# Altium integrated library Maxim Sensors.IntLib: 1171 symbols (part 37 of 61)
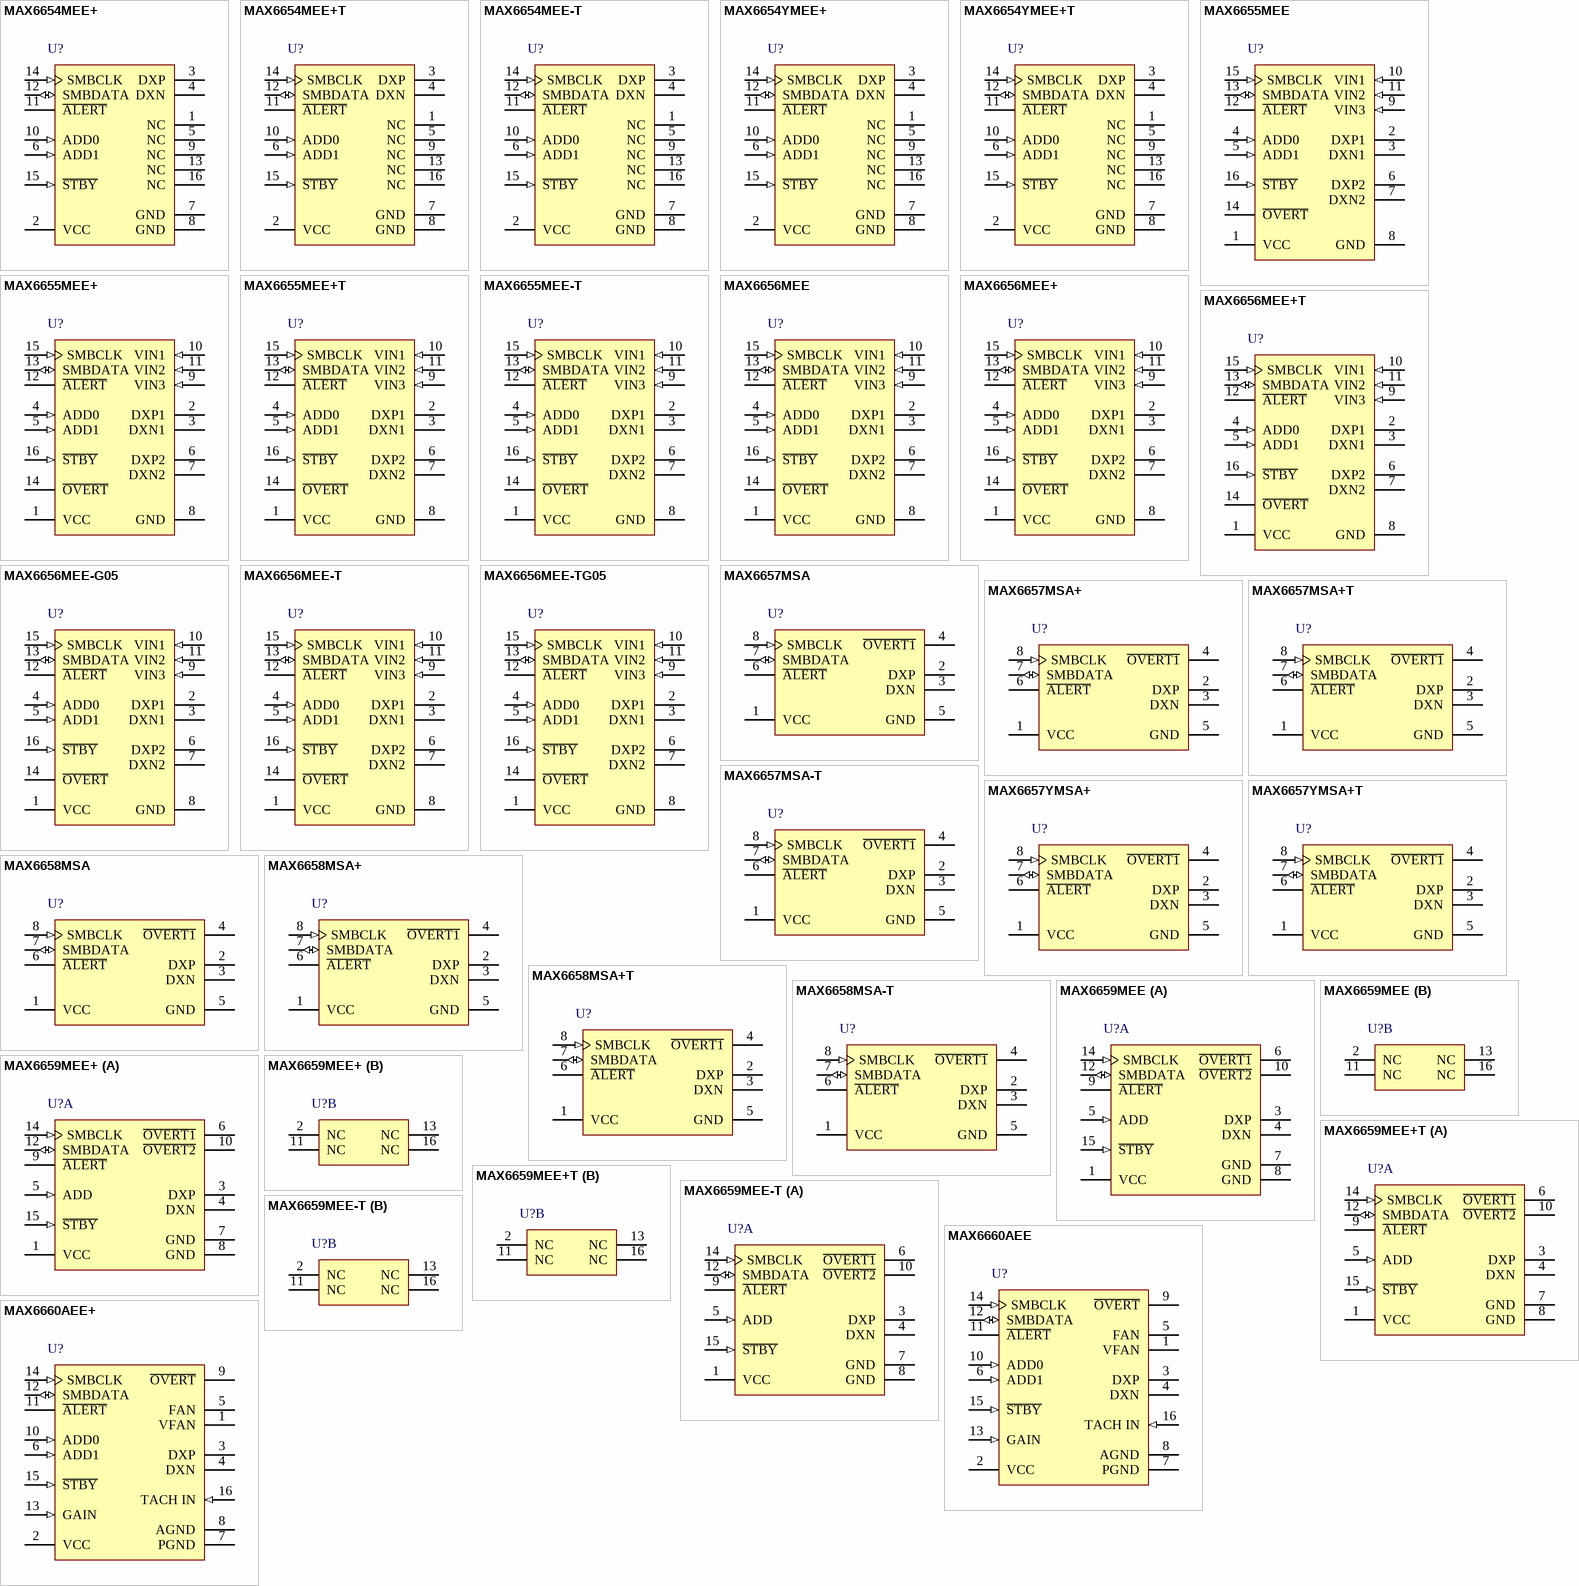
[diagram p69: symbols MAX6654MEE+ to MAX6660AEE+]

## MAX6660AEE
designator U?
Fan-Speed Regulator and Monitor with I2C / SMBus Interface, -40 to 125 degC, 16-Pin SOP (E16-5); Generic Part Number: MAX6660; PartNumber: MAX6660AEE; Fan Cntrl.: Linear; Interface: 2-Wire/I2C/SMBus; DatasheetVersion: Rev. 1; PackageVersion: Rev. K, 04/2012; PackageReference: E16-5; PackageDescription: 16-Pin Quarter Small-Outline Package, Body 3.9 x 4.89 mm, Pitch 0.635 mm; Supplier 1: Mouser; Supplier Part Number 1: N/A; Mounting Technology: Surface Mount; Code_JEDEC: MO-137; ComponentLink1Description: Manufacturer URL; ComponentLink1URL: http://www.maximintegrated.com/; ComponentLink2Description: Datasheet; ComponentLink2URL: http://datasheets.maximintegrated.com/en/ds/MAX6660.pdf; ComponentLink3Description: Package Specification; ComponentLink3URL: http://pdfserv.maximintegrated.com/package_dwgs/21-0055.PDF
footprint MAXM-E16-5_N (SOP, 16-Leads, Body 4.89x3.9mm, Pitch 0.635mm, IPC Medium Density)
footprint MAXM-E16-5_L (SOP, 16-Leads, Body 4.89x3.9mm, Pitch 0.635mm, IPC High Density)
footprint MAXM-E16-5_M (SOP, 16-Leads, Body 4.89x3.9mm, Pitch 0.635mm, IPC Low Density)
pins: 1 VFAN (power) "Fan Drive Power-Supply Input. 4.5V to 13.5V.", 2 VCC (power) "Supply Voltage Input. +3V to +5.5V. Bypass VCC to ground with a 0.1uF capacitor.", 3 DXP "Input: Remote-Junction Anode. Place a 2200pF capacitor between DXP and DXN for noise filtering.", 4 DXN "Input: Remote-Junction Cathode. DXN is internally biased to a diode voltage above ground.", 5 FAN (oc) "Open-Drain Output to Fan Low Side. Connect a minimum 1uF capacitor between FAN and VFAN.", 6 ADD1 (in) "SMBus Address Select Pin. ADD0 and ADD1 are sampled upon power-up.", 7 PGND (power) "Power Ground", 8 AGND (power) "Analog Ground", 9 ~{OVERT} (oc) "Overtemperature Shutdown Output. Active-low output (programmable for active high if desired). Open drain.", 10 ADD0 (in) "SMBus Slave Address Select Pin. ADD0 and ADD1 are sampled upon power-up.", 11 ~{ALERT} (oc) "SMBus Alert (Interrupt) Output. Open-drain, active-low output.", 12 SMBDATA (io) "SMBus Serial Data Input/Output. Open drain.", 13 GAIN (in) "Gain Control. Connect an external resistor from GAIN to VCC to reduce the gain of the current-sense mode.", 14 SMBCLK (in) "SMBus Clock Line from Controller. This line tolerates inputs up to VCC even if MAX6660 is not powered.", 15 ~{STBY} (in) "Hardware Standby Input. Drive S\T\B\Y\ low to reduce supply current. Temperature and comparison data are retained in standby mode.", 16 TACH IN (in) "Fan Tachometer Input. Tolerates voltages up to VFAN."

## MAX6660AEE+
designator U?
Fan-Speed Regulator and Monitor with I2C / SMBus Interface, -40 to 125 degC, 16-Pin SOP (E16+5), Pb-Free; Generic Part Number: MAX6660; PartNumber: MAX6660AEE+; Fan Cntrl.: Linear; Interface: 2-Wire/I2C/SMBus; DatasheetVersion: Rev. 1; PackageVersion: Rev. K, 04/2012; PackageReference: E16+5; PackageDescription: 16-Pin Quarter Small-Outline Package, Body 3.9 x 4.89 mm, Pitch 0.635 mm; Supplier 1: Digi-Key; Supplier Part Number 1: MAX6660AEE+-ND; Supplier 2: Mouser; Supplier Part Number 2: 700-MAX6660AEE; Mounting Technology: Surface Mount; Code_JEDEC: MO-137; ComponentLink1Description: Manufacturer URL; ComponentLink1URL: http://www.maximintegrated.com/; ComponentLink2Description: Datasheet; ComponentLink2URL: http://datasheets.maximintegrated.com/en/ds/MAX6660.pdf; ComponentLink3Description: Package Specification; ComponentLink3URL: http://pdfserv.maximintegrated.com/package_dwgs/21-0055.PDF
footprint MAXM-E16+5_N (SOP, 16-Leads, Body 4.89x3.9mm, Pitch 0.635mm, IPC Medium Density)
footprint MAXM-E16+5_L (SOP, 16-Leads, Body 4.89x3.9mm, Pitch 0.635mm, IPC High Density)
footprint MAXM-E16+5_M (SOP, 16-Leads, Body 4.89x3.9mm, Pitch 0.635mm, IPC Low Density)
pins: 1 VFAN (power) "Fan Drive Power-Supply Input. 4.5V to 13.5V.", 2 VCC (power) "Supply Voltage Input. +3V to +5.5V. Bypass VCC to ground with a 0.1uF capacitor.", 3 DXP "Input: Remote-Junction Anode. Place a 2200pF capacitor between DXP and DXN for noise filtering.", 4 DXN "Input: Remote-Junction Cathode. DXN is internally biased to a diode voltage above ground.", 5 FAN (oc) "Open-Drain Output to Fan Low Side. Connect a minimum 1uF capacitor between FAN and VFAN.", 6 ADD1 (in) "SMBus Address Select Pin. ADD0 and ADD1 are sampled upon power-up.", 7 PGND (power) "Power Ground", 8 AGND (power) "Analog Ground", 9 ~{OVERT} (oc) "Overtemperature Shutdown Output. Active-low output (programmable for active high if desired). Open drain.", 10 ADD0 (in) "SMBus Slave Address Select Pin. ADD0 and ADD1 are sampled upon power-up.", 11 ~{ALERT} (oc) "SMBus Alert (Interrupt) Output. Open-drain, active-low output.", 12 SMBDATA (io) "SMBus Serial Data Input/Output. Open drain.", 13 GAIN (in) "Gain Control. Connect an external resistor from GAIN to VCC to reduce the gain of the current-sense mode.", 14 SMBCLK (in) "SMBus Clock Line from Controller. This line tolerates inputs up to VCC even if MAX6660 is not powered.", 15 ~{STBY} (in) "Hardware Standby Input. Drive S\T\B\Y\ low to reduce supply current. Temperature and comparison data are retained in standby mode.", 16 TACH IN (in) "Fan Tachometer Input. Tolerates voltages up to VFAN."

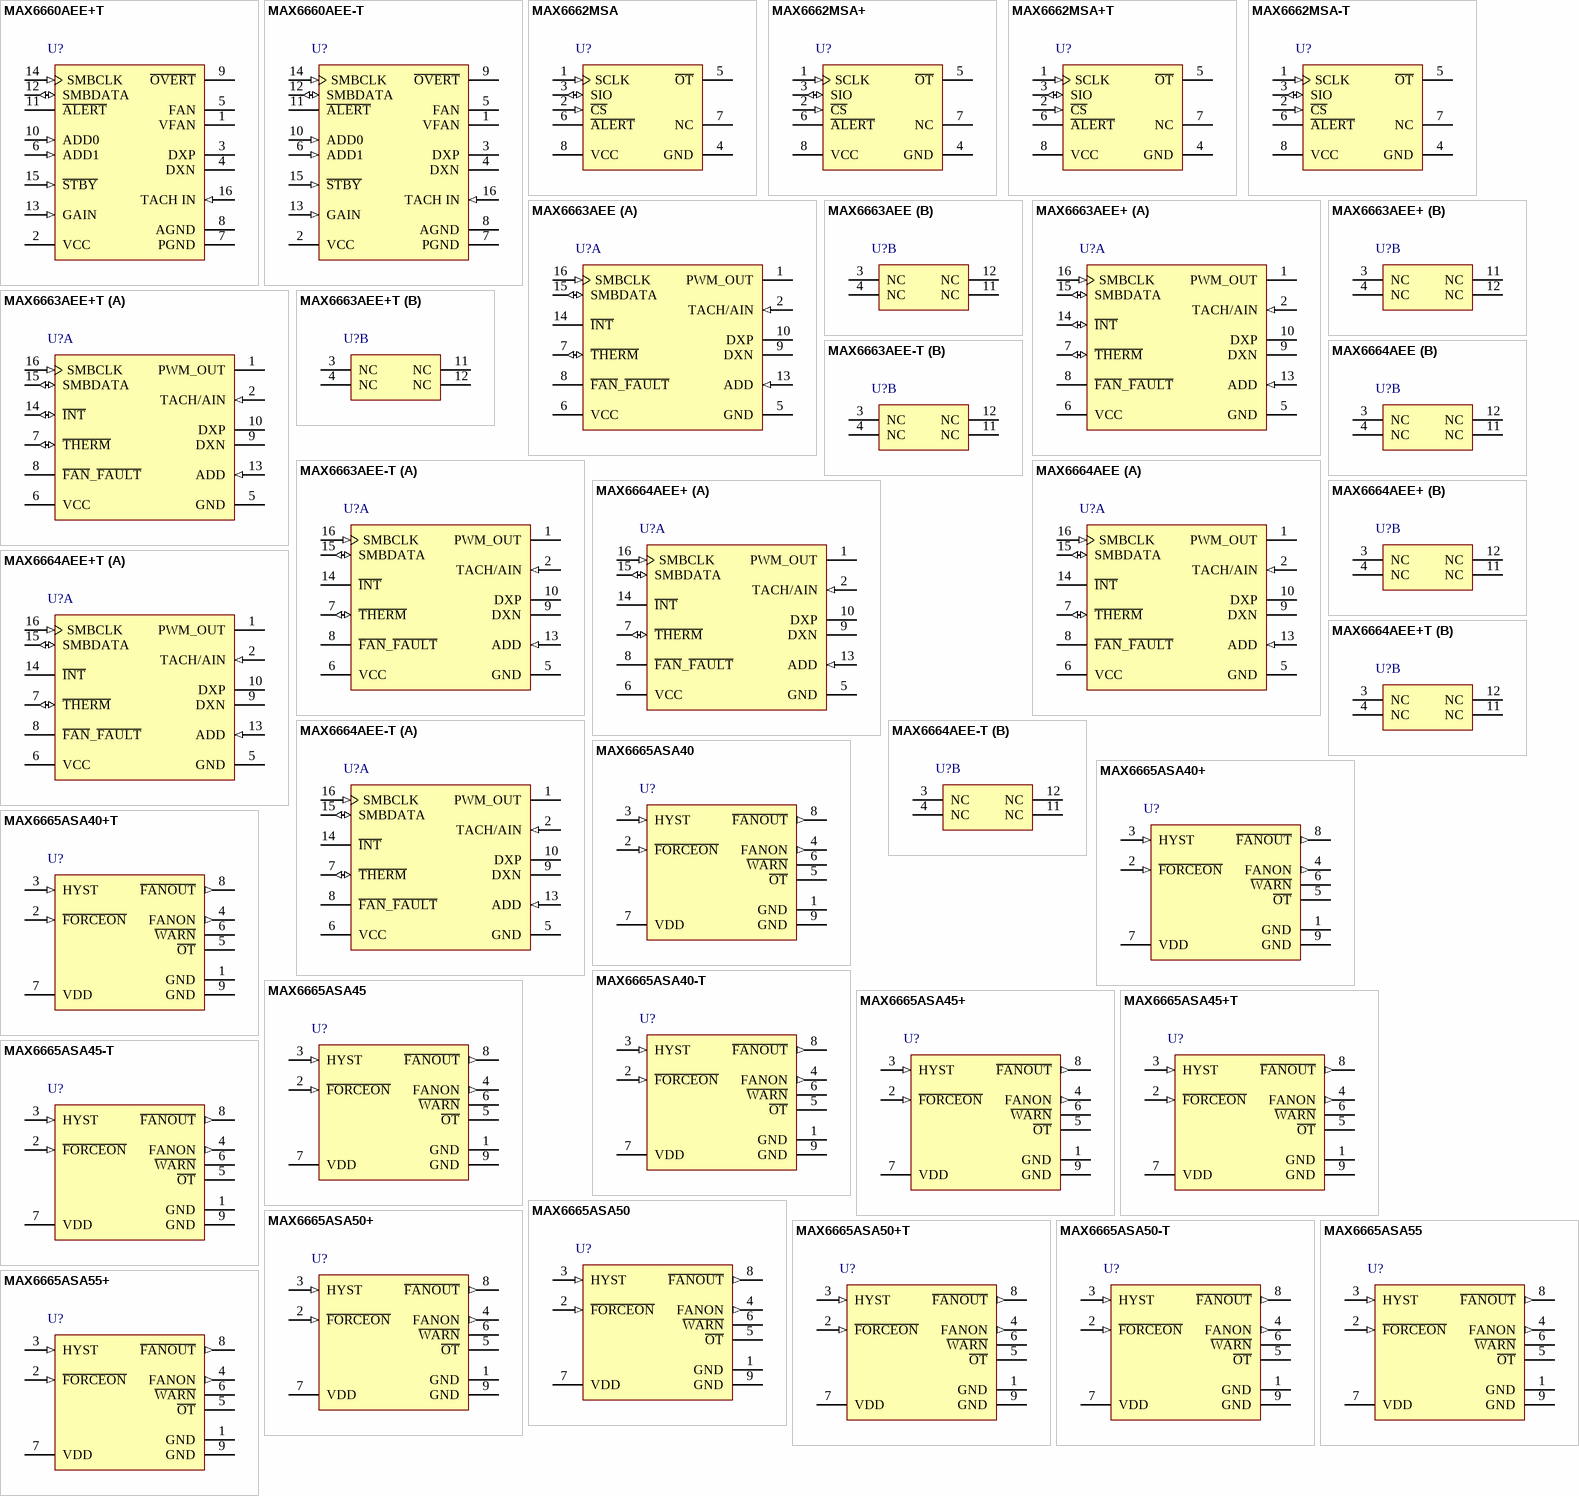
[diagram p21: symbols MAX6660AEE+T to MAX6665ASA55+]

## MAX6660AEE+T
designator U?
Fan-Speed Regulator and Monitor with I2C / SMBus Interface, -40 to 125 degC, 16-Pin SOP (E16+5), Pb-Free, Tape and Reel; Generic Part Number: MAX6660; PartNumber: MAX6660AEE+T; Fan Cntrl.: Linear; Interface: 2-Wire/I2C/SMBus; DatasheetVersion: Rev. 1; PackageVersion: Rev. K, 04/2012; PackageReference: E16+5; PackageDescription: 16-Pin Quarter Small-Outline Package, Body 3.9 x 4.89 mm, Pitch 0.635 mm; Supplier 1: Digi-Key; Supplier Part Number 1: MAX6660AEE+T-ND; Supplier 2: Mouser; Supplier Part Number 2: 700-MAX6660AEET; Packing: Tape and Reel; Mounting Technology: Surface Mount; Code_JEDEC: MO-137; ComponentLink1Description: Manufacturer URL; ComponentLink1URL: http://www.maximintegrated.com/; ComponentLink2Description: Datasheet; ComponentLink2URL: http://datasheets.maximintegrated.com/en/ds/MAX6660.pdf; ComponentLink3Description: Package Specification; ComponentLink3URL: http://pdfserv.maximintegrated.com/package_dwgs/21-0055.PDF
footprint MAXM-E16+5_N (SOP, 16-Leads, Body 4.89x3.9mm, Pitch 0.635mm, IPC Medium Density)
footprint MAXM-E16+5_L (SOP, 16-Leads, Body 4.89x3.9mm, Pitch 0.635mm, IPC High Density)
footprint MAXM-E16+5_M (SOP, 16-Leads, Body 4.89x3.9mm, Pitch 0.635mm, IPC Low Density)
pins: 1 VFAN (power) "Fan Drive Power-Supply Input. 4.5V to 13.5V.", 2 VCC (power) "Supply Voltage Input. +3V to +5.5V. Bypass VCC to ground with a 0.1uF capacitor.", 3 DXP "Input: Remote-Junction Anode. Place a 2200pF capacitor between DXP and DXN for noise filtering.", 4 DXN "Input: Remote-Junction Cathode. DXN is internally biased to a diode voltage above ground.", 5 FAN (oc) "Open-Drain Output to Fan Low Side. Connect a minimum 1uF capacitor between FAN and VFAN.", 6 ADD1 (in) "SMBus Address Select Pin. ADD0 and ADD1 are sampled upon power-up.", 7 PGND (power) "Power Ground", 8 AGND (power) "Analog Ground", 9 ~{OVERT} (oc) "Overtemperature Shutdown Output. Active-low output (programmable for active high if desired). Open drain.", 10 ADD0 (in) "SMBus Slave Address Select Pin. ADD0 and ADD1 are sampled upon power-up.", 11 ~{ALERT} (oc) "SMBus Alert (Interrupt) Output. Open-drain, active-low output.", 12 SMBDATA (io) "SMBus Serial Data Input/Output. Open drain.", 13 GAIN (in) "Gain Control. Connect an external resistor from GAIN to VCC to reduce the gain of the current-sense mode.", 14 SMBCLK (in) "SMBus Clock Line from Controller. This line tolerates inputs up to VCC even if MAX6660 is not powered.", 15 ~{STBY} (in) "Hardware Standby Input. Drive S\T\B\Y\ low to reduce supply current. Temperature and comparison data are retained in standby mode.", 16 TACH IN (in) "Fan Tachometer Input. Tolerates voltages up to VFAN."

## MAX6660AEE-T
designator U?
Fan-Speed Regulator and Monitor with I2C / SMBus Interface, -40 to 125 degC, 16-Pin SOP (E16-5), Tape and Reel; Generic Part Number: MAX6660; PartNumber: MAX6660AEE-T; Fan Cntrl.: Linear; Interface: 2-Wire/I2C/SMBus; DatasheetVersion: Rev. 1; PackageVersion: Rev. K, 04/2012; PackageReference: E16-5; PackageDescription: 16-Pin Quarter Small-Outline Package, Body 3.9 x 4.89 mm, Pitch 0.635 mm; Supplier 1: Mouser; Supplier Part Number 1: N/A; Packing: Tape and Reel; Mounting Technology: Surface Mount; Code_JEDEC: MO-137; ComponentLink1Description: Manufacturer URL; ComponentLink1URL: http://www.maximintegrated.com/; ComponentLink2Description: Datasheet; ComponentLink2URL: http://datasheets.maximintegrated.com/en/ds/MAX6660.pdf; ComponentLink3Description: Package Specification; ComponentLink3URL: http://pdfserv.maximintegrated.com/package_dwgs/21-0055.PDF
footprint MAXM-E16-5_N (SOP, 16-Leads, Body 4.89x3.9mm, Pitch 0.635mm, IPC Medium Density)
footprint MAXM-E16-5_L (SOP, 16-Leads, Body 4.89x3.9mm, Pitch 0.635mm, IPC High Density)
footprint MAXM-E16-5_M (SOP, 16-Leads, Body 4.89x3.9mm, Pitch 0.635mm, IPC Low Density)
pins: 1 VFAN (power) "Fan Drive Power-Supply Input. 4.5V to 13.5V.", 2 VCC (power) "Supply Voltage Input. +3V to +5.5V. Bypass VCC to ground with a 0.1uF capacitor.", 3 DXP "Input: Remote-Junction Anode. Place a 2200pF capacitor between DXP and DXN for noise filtering.", 4 DXN "Input: Remote-Junction Cathode. DXN is internally biased to a diode voltage above ground.", 5 FAN (oc) "Open-Drain Output to Fan Low Side. Connect a minimum 1uF capacitor between FAN and VFAN.", 6 ADD1 (in) "SMBus Address Select Pin. ADD0 and ADD1 are sampled upon power-up.", 7 PGND (power) "Power Ground", 8 AGND (power) "Analog Ground", 9 ~{OVERT} (oc) "Overtemperature Shutdown Output. Active-low output (programmable for active high if desired). Open drain.", 10 ADD0 (in) "SMBus Slave Address Select Pin. ADD0 and ADD1 are sampled upon power-up.", 11 ~{ALERT} (oc) "SMBus Alert (Interrupt) Output. Open-drain, active-low output.", 12 SMBDATA (io) "SMBus Serial Data Input/Output. Open drain.", 13 GAIN (in) "Gain Control. Connect an external resistor from GAIN to VCC to reduce the gain of the current-sense mode.", 14 SMBCLK (in) "SMBus Clock Line from Controller. This line tolerates inputs up to VCC even if MAX6660 is not powered.", 15 ~{STBY} (in) "Hardware Standby Input. Drive S\T\B\Y\ low to reduce supply current. Temperature and comparison data are retained in standby mode.", 16 TACH IN (in) "Fan Tachometer Input. Tolerates voltages up to VFAN."

## MAX6662MSA
designator U?
12-Bit Plus Sign Temperature Sensor with SPI-Compatible Serial Interface, 13 Bits Temperature Resolution, -55 to 150 degC, 8-Pin SOIC (S8-2); Generic Part Number: MAX6662; PartNumber: MAX6662MSA; Alarm Output: Alert, Overt; Interface: 3-Wire/SPI; Parasite Pwr.: No; DatasheetVersion: Rev. 0; PackageVersion: Rev. D, 10/2012; PackageReference: S8-2; PackageDescription: 8-Pin Small-Outline IC, Narrow (0.15in) (S8-2), Body 4.90 x 3.90 mm, Pitch 1.27 mm; Supplier 1: Mouser; Supplier Part Number 1: N/A; Mounting Technology: Surface Mount; Code_JEDEC: MS012; ComponentLink1Description: Manufacturer URL; ComponentLink1URL: http://www.maximintegrated.com/; ComponentLink2Description: Datasheet; ComponentLink2URL: http://datasheets.maximintegrated.com/en/ds/MAX6662.pdf; ComponentLink3Description: Package Specification; ComponentLink3URL: http://pdfserv.maximintegrated.com/package_dwgs/21-0041.PDF
footprint MAXM-S8-2_N (SOIC, 8-Leads, Body 4.90x3.90mm, Pitch 1.27mm, IPC Medium Density)
footprint MAXM-S8-2_L (SOIC, 8-Leads, Body 4.90x3.90mm, Pitch 1.27mm, IPC High Density)
footprint MAXM-S8-2_M (SOIC, 8-Leads, Body 4.90x3.90mm, Pitch 1.27mm, IPC Low Density)
pins: 1 SCLK (in) "Serial-Clock Input", 2 ~{CS} (in) "Chip Select Input. Set low to enable the serial interface for data input/output.", 3 SIO (io) "Serial-Data Input/Output. Bidirectional data input and output for serial interface.", 4 GND (power) "Ground", 5 ~{OT} (oc) "Overtemperature Output. Open-drain output requires a pullup resistor to VCC.", 6 ~{ALERT} (oc) "Alert Output. Open-drain output requires a pullup resistor to VCC.", 7 NC "No Connection. Do not make a connection to this pin.", 8 VCC (power) "Supply Voltage Input. Bypass to GND with a 0.1μF capacitor as close to VCC as possible."

## MAX6662MSA+
designator U?
12-Bit Plus Sign Temperature Sensor with SPI-Compatible Serial Interface, 13 Bits Temperature Resolution, -55 to 150 degC, 8-Pin SOIC (S8+2), Pb-Free; Generic Part Number: MAX6662; PartNumber: MAX6662MSA+; Alarm Output: Alert, Overt; Interface: 3-Wire/SPI; Parasite Pwr.: No; DatasheetVersion: Rev. 0; PackageVersion: Rev. D, 10/2012; PackageReference: S8+2; PackageDescription: 8-Pin Small-Outline IC, Narrow (0.15in) (S8+2), Body 4.90 x 3.90 mm, Pitch 1.27 mm; Supplier 1: Digi-Key; Supplier Part Number 1: MAX6662MSA+-ND; Supplier 2: Mouser; Supplier Part Number 2: 700-MAX6662MSA; Mounting Technology: Surface Mount; Code_JEDEC: MS012; ComponentLink1Description: Manufacturer URL; ComponentLink1URL: http://www.maximintegrated.com/; ComponentLink2Description: Datasheet; ComponentLink2URL: http://datasheets.maximintegrated.com/en/ds/MAX6662.pdf; ComponentLink3Description: Package Specification; ComponentLink3URL: http://pdfserv.maximintegrated.com/package_dwgs/21-0041.PDF
footprint MAXM-S8+2_N (SOIC, 8-Leads, Body 4.90x3.90mm, Pitch 1.27mm, IPC Medium Density)
footprint MAXM-S8+2_L (SOIC, 8-Leads, Body 4.90x3.90mm, Pitch 1.27mm, IPC High Density)
footprint MAXM-S8+2_M (SOIC, 8-Leads, Body 4.90x3.90mm, Pitch 1.27mm, IPC Low Density)
pins: 1 SCLK (in) "Serial-Clock Input", 2 ~{CS} (in) "Chip Select Input. Set low to enable the serial interface for data input/output.", 3 SIO (io) "Serial-Data Input/Output. Bidirectional data input and output for serial interface.", 4 GND (power) "Ground", 5 ~{OT} (oc) "Overtemperature Output. Open-drain output requires a pullup resistor to VCC.", 6 ~{ALERT} (oc) "Alert Output. Open-drain output requires a pullup resistor to VCC.", 7 NC "No Connection. Do not make a connection to this pin.", 8 VCC (power) "Supply Voltage Input. Bypass to GND with a 0.1μF capacitor as close to VCC as possible."

## MAX6662MSA+T
designator U?
12-Bit Plus Sign Temperature Sensor with SPI-Compatible Serial Interface, 13 Bits Temperature Resolution, -55 to 150 degC, 8-Pin SOIC (S8+2), Pb-Free, Tape and Reel; Generic Part Number: MAX6662; PartNumber: MAX6662MSA+T; Alarm Output: Alert, Overt; Interface: 3-Wire/SPI; Parasite Pwr.: No; DatasheetVersion: Rev. 0; PackageVersion: Rev. D, 10/2012; PackageReference: S8+2; PackageDescription: 8-Pin Small-Outline IC, Narrow (0.15in) (S8+2), Body 4.90 x 3.90 mm, Pitch 1.27 mm; Supplier 1: Digi-Key; Supplier Part Number 1: MAX6662MSA+T-ND; Supplier 2: Mouser; Supplier Part Number 2: 700-MAX6662MSAT; Packing: Tape and Reel; Mounting Technology: Surface Mount; Code_JEDEC: MS012; ComponentLink1Description: Manufacturer URL; ComponentLink1URL: http://www.maximintegrated.com/; ComponentLink2Description: Datasheet; ComponentLink2URL: http://datasheets.maximintegrated.com/en/ds/MAX6662.pdf; ComponentLink3Description: Package Specification; ComponentLink3URL: http://pdfserv.maximintegrated.com/package_dwgs/21-0041.PDF
footprint MAXM-S8+2_N (SOIC, 8-Leads, Body 4.90x3.90mm, Pitch 1.27mm, IPC Medium Density)
footprint MAXM-S8+2_L (SOIC, 8-Leads, Body 4.90x3.90mm, Pitch 1.27mm, IPC High Density)
footprint MAXM-S8+2_M (SOIC, 8-Leads, Body 4.90x3.90mm, Pitch 1.27mm, IPC Low Density)
pins: 1 SCLK (in) "Serial-Clock Input", 2 ~{CS} (in) "Chip Select Input. Set low to enable the serial interface for data input/output.", 3 SIO (io) "Serial-Data Input/Output. Bidirectional data input and output for serial interface.", 4 GND (power) "Ground", 5 ~{OT} (oc) "Overtemperature Output. Open-drain output requires a pullup resistor to VCC.", 6 ~{ALERT} (oc) "Alert Output. Open-drain output requires a pullup resistor to VCC.", 7 NC "No Connection. Do not make a connection to this pin.", 8 VCC (power) "Supply Voltage Input. Bypass to GND with a 0.1μF capacitor as close to VCC as possible."

## MAX6662MSA-T
designator U?
12-Bit Plus Sign Temperature Sensor with SPI-Compatible Serial Interface, 13 Bits Temperature Resolution, -55 to 150 degC, 8-Pin SOIC (S8-2), Tape and Reel; Generic Part Number: MAX6662; PartNumber: MAX6662MSA-T; Alarm Output: Alert, Overt; Interface: 3-Wire/SPI; Parasite Pwr.: No; DatasheetVersion: Rev. 0; PackageVersion: Rev. D, 10/2012; PackageReference: S8-2; PackageDescription: 8-Pin Small-Outline IC, Narrow (0.15in) (S8-2), Body 4.90 x 3.90 mm, Pitch 1.27 mm; Supplier 1: Mouser; Supplier Part Number 1: N/A; Packing: Tape and Reel; Mounting Technology: Surface Mount; Code_JEDEC: MS012; ComponentLink1Description: Manufacturer URL; ComponentLink1URL: http://www.maximintegrated.com/; ComponentLink2Description: Datasheet; ComponentLink2URL: http://datasheets.maximintegrated.com/en/ds/MAX6662.pdf; ComponentLink3Description: Package Specification; ComponentLink3URL: http://pdfserv.maximintegrated.com/package_dwgs/21-0041.PDF
footprint MAXM-S8-2_N (SOIC, 8-Leads, Body 4.90x3.90mm, Pitch 1.27mm, IPC Medium Density)
footprint MAXM-S8-2_L (SOIC, 8-Leads, Body 4.90x3.90mm, Pitch 1.27mm, IPC High Density)
footprint MAXM-S8-2_M (SOIC, 8-Leads, Body 4.90x3.90mm, Pitch 1.27mm, IPC Low Density)
pins: 1 SCLK (in) "Serial-Clock Input", 2 ~{CS} (in) "Chip Select Input. Set low to enable the serial interface for data input/output.", 3 SIO (io) "Serial-Data Input/Output. Bidirectional data input and output for serial interface.", 4 GND (power) "Ground", 5 ~{OT} (oc) "Overtemperature Output. Open-drain output requires a pullup resistor to VCC.", 6 ~{ALERT} (oc) "Alert Output. Open-drain output requires a pullup resistor to VCC.", 7 NC "No Connection. Do not make a connection to this pin.", 8 VCC (power) "Supply Voltage Input. Bypass to GND with a 0.1μF capacitor as close to VCC as possible."

## MAX6663AEE
designator U?
Temperature Monitor and PWM Fan Controller, -40 to 125 degC, 16-Pin SOP (E16-5); Generic Part Number: MAX6663; PartNumber: MAX6663AEE; Fan Controller Functions: Dual Temperature Alarms, Fan Failure Detector ,Remote & Local Sensor; Interface: 2-Wire/I2C/SMBus; DatasheetVersion: Rev. 1; PackageVersion: Rev. K, 04/2012; PackageReference: E16-5; PackageDescription: 16-Pin Quarter Small-Outline Package, Body 3.9 x 4.89 mm, Pitch 0.635 mm; Supplier 1: Mouser; Supplier Part Number 1: N/A; Fan Cntrl.: PWM; Mounting Technology: Surface Mount; Code_JEDEC: MO-137; ComponentLink1Description: Manufacturer URL; ComponentLink1URL: http://www.maximintegrated.com/; ComponentLink2Description: Datasheet; ComponentLink2URL: http://datasheets.maximintegrated.com/en/ds/MAX6653-MAX6664.pdf; ComponentLink3Description: Package Specification; ComponentLink3URL: http://pdfserv.maximintegrated.com/package_dwgs/21-0055.PDF
footprint MAXM-E16-5_N (SOP, 16-Leads, Body 4.89x3.9mm, Pitch 0.635mm, IPC Medium Density)
footprint MAXM-E16-5_L (SOP, 16-Leads, Body 4.89x3.9mm, Pitch 0.635mm, IPC High Density)
footprint MAXM-E16-5_M (SOP, 16-Leads, Body 4.89x3.9mm, Pitch 0.635mm, IPC Low Density)
part A pins: 1 PWM_OUT (oc) "Digital Output (Open Drain). Pulse-width modulated output to external power transistor.Requires a pullup resistor (10k ohm typ).", 2 TACH/AIN (in) "Digital/Analog Input. Fan tachometer input. May be reprogrammed as an analog input to measure speed of a 2-wire fan. See Figure 5.", 5 GND (power) "Ground", 6 VCC (power) "Power Supply. Bypass with a 0.01uF capacitor to GND.", 7 ~{THERM} (io) "Digital I/O (Open Drain). An active-low thermal-overload output to indicate that the overtemperature set point has been exceeded. Also acts as an input to provide external fan control. When this pin is pulled low by an (See Datasheet)", 8 ~{FAN}_~{FAULT} (oc) "Digital Output (Active Low, Open Drain). Signals a fan fault. Requires a pullup resistor (10k ohm typ).", 9 DXN "Combined Current Sink and A/D Negative Input. DXN is internally biased to a diode voltage above ground.", 10 DXP "Combined Current Source and A/D Positive Input for the Remote-Diode Channel. Do not leave DXP floating; connect DXP to DXN if no remote diode is used. Place a 2200pF capacitor between DXP and DXN for noise filtering.", 13 ADD (in) "Three-State Logic Input. Sets the 2 lower bits of the device SMBus address (Table 2). ADD is not an ordinary logic input pin; ADD should be connected to VCC, GND, or float.", 14 ~{INT} (oc) "Digital Output (Open Drain). Can be programmed as an interrupt output for temperature/fan speed interrupts. Requires a pullup resistor (10k ohm typ). For the MAX6653/MAX6663, it can be used also as an input. If pulled low, (See Datasheet)", 15 SMBDATA (io) "SMBus Serial-Data Input/Output (Open Drain). Requires a pullup resistor (10k ohm typ).", 16 SMBCLK (in) "SMBus Serial-Clock Input. Requires a pullup resistor (10k ohm typ)."
part B pins: 3 NC "No Connection. Not internally connected.", 4 NC "No Connection. Not internally connected.", 11 NC "Internal Connection. Leave floating or connect to GND.", 12 NC "Internal Connection. Leave floating or connect to GND."

## MAX6663AEE+
designator U?
Temperature Monitor and PWM Fan Controller, -40 to 125 degC, 16-Pin SOP (E16+5), Pb-Free; Generic Part Number: MAX6663; PartNumber: MAX6663AEE+; Fan Controller Functions: Dual Temperature Alarms, Fan Failure Detector ,Remote & Local Sensor; Interface: 2-Wire/I2C/SMBus; DatasheetVersion: Rev. 1; PackageVersion: Rev. K, 04/2012; PackageReference: E16+5; PackageDescription: 16-Pin Quarter Small-Outline Package, Body 3.9 x 4.89 mm, Pitch 0.635 mm; Supplier 1: Digi-Key; Supplier Part Number 1: MAX6663AEE+-ND; Supplier 2: Mouser; Supplier Part Number 2: 700-MAX6663AEE; Fan Cntrl.: PWM; Mounting Technology: Surface Mount; Code_JEDEC: MO-137; ComponentLink1Description: Manufacturer URL; ComponentLink1URL: http://www.maximintegrated.com/; ComponentLink2Description: Datasheet; ComponentLink2URL: http://datasheets.maximintegrated.com/en/ds/MAX6653-MAX6664.pdf; ComponentLink3Description: Package Specification; ComponentLink3URL: http://pdfserv.maximintegrated.com/package_dwgs/21-0055.PDF
footprint MAXM-E16+5_N (SOP, 16-Leads, Body 4.89x3.9mm, Pitch 0.635mm, IPC Medium Density)
footprint MAXM-E16+5_L (SOP, 16-Leads, Body 4.89x3.9mm, Pitch 0.635mm, IPC High Density)
footprint MAXM-E16+5_M (SOP, 16-Leads, Body 4.89x3.9mm, Pitch 0.635mm, IPC Low Density)
part A pins: 1 PWM_OUT (oc) "Digital Output (Open Drain). Pulse-width modulated output to external power transistor.Requires a pullup resistor (10k ohm typ).", 2 TACH/AIN (in) "Digital/Analog Input. Fan tachometer input. May be reprogrammed as an analog input to measure speed of a 2-wire fan. See Figure 5.", 5 GND (power) "Ground", 6 VCC (power) "Power Supply. Bypass with a 0.01uF capacitor to GND.", 7 ~{THERM} (io) "Digital I/O (Open Drain). An active-low thermal-overload output to indicate that the overtemperature set point has been exceeded. Also acts as an input to provide external fan control. When this pin is pulled low by an (See Datasheet)", 8 ~{FAN}_~{FAULT} (oc) "Digital Output (Active Low, Open Drain). Signals a fan fault. Requires a pullup resistor (10k ohm typ).", 9 DXN "Combined Current Sink and A/D Negative Input. DXN is internally biased to a diode voltage above ground.", 10 DXP "Combined Current Source and A/D Positive Input for the Remote-Diode Channel. Do not leave DXP floating; connect DXP to DXN if no remote diode is used. Place a 2200pF capacitor between DXP and DXN for noise filtering.", 13 ADD (in) "Three-State Logic Input. Sets the 2 lower bits of the device SMBus address (Table 2). ADD is not an ordinary logic input pin; ADD should be connected to VCC, GND, or float.", 14 ~{INT} (io) "Digital Output (Open Drain). Can be programmed as an interrupt output for temperature/fan speed interrupts. Requires a pullup resistor (10k ohm typ). For the MAX6653/MAX6663, it can be used also as an input. If pulled low, (See Datasheet)", 15 SMBDATA (io) "SMBus Serial-Data Input/Output (Open Drain). Requires a pullup resistor (10k ohm typ).", 16 SMBCLK (in) "SMBus Serial-Clock Input. Requires a pullup resistor (10k ohm typ)."
part B pins: 3 NC "No Connection. Not internally connected.", 4 NC "No Connection. Not internally connected.", 11 NC "Internal Connection. Leave floating or connect to GND.", 12 NC "Internal Connection. Leave floating or connect to GND."

## MAX6663AEE+T
designator U?
Temperature Monitor and PWM Fan Controller, -40 to 125 degC, 16-Pin SOP (E16+5), Pb-Free, Tape and Reel; Generic Part Number: MAX6663; PartNumber: MAX6663AEE+T; Fan Controller Functions: Dual Temperature Alarms, Fan Failure Detector ,Remote & Local Sensor; Interface: 2-Wire/I2C/SMBus; DatasheetVersion: Rev. 1; PackageVersion: Rev. K, 04/2012; PackageReference: E16+5; PackageDescription: 16-Pin Quarter Small-Outline Package, Body 3.9 x 4.89 mm, Pitch 0.635 mm; Supplier 1: Digi-Key; Supplier Part Number 1: MAX6663AEE+T-ND; Supplier 2: Mouser; Supplier Part Number 2: 700-MAX6663AEET; Fan Cntrl.: PWM; Packing: Tape and Reel; Mounting Technology: Surface Mount; Code_JEDEC: MO-137; ComponentLink1Description: Manufacturer URL; ComponentLink1URL: http://www.maximintegrated.com/; ComponentLink2Description: Datasheet; ComponentLink2URL: http://datasheets.maximintegrated.com/en/ds/MAX6653-MAX6664.pdf; ComponentLink3Description: Package Specification; ComponentLink3URL: http://pdfserv.maximintegrated.com/package_dwgs/21-0055.PDF
footprint MAXM-E16+5_N (SOP, 16-Leads, Body 4.89x3.9mm, Pitch 0.635mm, IPC Medium Density)
footprint MAXM-E16+5_L (SOP, 16-Leads, Body 4.89x3.9mm, Pitch 0.635mm, IPC High Density)
footprint MAXM-E16+5_M (SOP, 16-Leads, Body 4.89x3.9mm, Pitch 0.635mm, IPC Low Density)
part A pins: 1 PWM_OUT (oc) "Digital Output (Open Drain). Pulse-width modulated output to external power transistor.Requires a pullup resistor (10k ohm typ).", 2 TACH/AIN (in) "Digital/Analog Input. Fan tachometer input. May be reprogrammed as an analog input to measure speed of a 2-wire fan. See Figure 5.", 5 GND (power) "Ground", 6 VCC (power) "Power Supply. Bypass with a 0.01uF capacitor to GND.", 7 ~{THERM} (io) "Digital I/O (Open Drain). An active-low thermal-overload output to indicate that the overtemperature set point has been exceeded. Also acts as an input to provide external fan control. When this pin is pulled low by an (See Datasheet)", 8 ~{FAN}_~{FAULT} (oc) "Digital Output (Active Low, Open Drain). Signals a fan fault. Requires a pullup resistor (10k ohm typ).", 9 DXN "Combined Current Sink and A/D Negative Input. DXN is internally biased to a diode voltage above ground.", 10 DXP "Combined Current Source and A/D Positive Input for the Remote-Diode Channel. Do not leave DXP floating; connect DXP to DXN if no remote diode is used. Place a 2200pF capacitor between DXP and DXN for noise filtering.", 13 ADD (in) "Three-State Logic Input. Sets the 2 lower bits of the device SMBus address (Table 2). ADD is not an ordinary logic input pin; ADD should be connected to VCC, GND, or float.", 14 ~{INT} (io) "Digital Output (Open Drain). Can be programmed as an interrupt output for temperature/fan speed interrupts. Requires a pullup resistor (10k ohm typ). For the MAX6653/MAX6663, it can be used also as an input. If pulled low, (See Datasheet)", 15 SMBDATA (io) "SMBus Serial-Data Input/Output (Open Drain). Requires a pullup resistor (10k ohm typ).", 16 SMBCLK (in) "SMBus Serial-Clock Input. Requires a pullup resistor (10k ohm typ)."
part B pins: 3 NC "No Connection. Not internally connected.", 4 NC "No Connection. Not internally connected.", 11 NC "Internal Connection. Leave floating or connect to GND.", 12 NC "Internal Connection. Leave floating or connect to GND."

## MAX6663AEE-T
designator U?
Temperature Monitor and PWM Fan Controller, -40 to 125 degC, 16-Pin SOP (E16-5), Tape and Reel; Generic Part Number: MAX6663; PartNumber: MAX6663AEE-T; Fan Controller Functions: Dual Temperature Alarms, Fan Failure Detector ,Remote & Local Sensor; Interface: 2-Wire/I2C/SMBus; DatasheetVersion: Rev. 1; PackageVersion: Rev. K, 04/2012; PackageReference: E16-5; PackageDescription: 16-Pin Quarter Small-Outline Package, Body 3.9 x 4.89 mm, Pitch 0.635 mm; Supplier 1: Mouser; Supplier Part Number 1: N/A; Fan Cntrl.: PWM; Packing: Tape and Reel; Mounting Technology: Surface Mount; Code_JEDEC: MO-137; ComponentLink1Description: Manufacturer URL; ComponentLink1URL: http://www.maximintegrated.com/; ComponentLink2Description: Datasheet; ComponentLink2URL: http://datasheets.maximintegrated.com/en/ds/MAX6653-MAX6664.pdf; ComponentLink3Description: Package Specification; ComponentLink3URL: http://pdfserv.maximintegrated.com/package_dwgs/21-0055.PDF
footprint MAXM-E16-5_N (SOP, 16-Leads, Body 4.89x3.9mm, Pitch 0.635mm, IPC Medium Density)
footprint MAXM-E16-5_L (SOP, 16-Leads, Body 4.89x3.9mm, Pitch 0.635mm, IPC High Density)
footprint MAXM-E16-5_M (SOP, 16-Leads, Body 4.89x3.9mm, Pitch 0.635mm, IPC Low Density)
part A pins: 1 PWM_OUT (oc) "Digital Output (Open Drain). Pulse-width modulated output to external power transistor.Requires a pullup resistor (10k ohm typ).", 2 TACH/AIN (in) "Digital/Analog Input. Fan tachometer input. May be reprogrammed as an analog input to measure speed of a 2-wire fan. See Figure 5.", 5 GND (power) "Ground", 6 VCC (power) "Power Supply. Bypass with a 0.01uF capacitor to GND.", 7 ~{THERM} (io) "Digital I/O (Open Drain). An active-low thermal-overload output to indicate that the overtemperature set point has been exceeded. Also acts as an input to provide external fan control. When this pin is pulled low by an (See Datasheet)", 8 ~{FAN}_~{FAULT} (oc) "Digital Output (Active Low, Open Drain). Signals a fan fault. Requires a pullup resistor (10k ohm typ).", 9 DXN "Combined Current Sink and A/D Negative Input. DXN is internally biased to a diode voltage above ground.", 10 DXP "Combined Current Source and A/D Positive Input for the Remote-Diode Channel. Do not leave DXP floating; connect DXP to DXN if no remote diode is used. Place a 2200pF capacitor between DXP and DXN for noise filtering.", 13 ADD (in) "Three-State Logic Input. Sets the 2 lower bits of the device SMBus address (Table 2). ADD is not an ordinary logic input pin; ADD should be connected to VCC, GND, or float.", 14 ~{INT} (oc) "Digital Output (Open Drain). Can be programmed as an interrupt output for temperature/fan speed interrupts. Requires a pullup resistor (10k ohm typ). For the MAX6653/MAX6663, it can be used also as an input. If pulled low, (See Datasheet)", 15 SMBDATA (io) "SMBus Serial-Data Input/Output (Open Drain). Requires a pullup resistor (10k ohm typ).", 16 SMBCLK (in) "SMBus Serial-Clock Input. Requires a pullup resistor (10k ohm typ)."
part B pins: 3 NC "No Connection. Not internally connected.", 4 NC "No Connection. Not internally connected.", 11 NC "Internal Connection. Leave floating or connect to GND.", 12 NC "Internal Connection. Leave floating or connect to GND."

## MAX6664AEE
designator U?
Temperature Monitor and PWM Fan Controller, 11 Bits Tempearture Resolution, -40 to 125 degC, 16-Pin SOP (E16-5); Generic Part Number: MAX6664; PartNumber: MAX6664AEE; Fan Controller Functions: Dual Temperature Alarms, Fan Failure Detector ,Remote & Local Sensor; Interface: 2-Wire/I2C/SMBus; DatasheetVersion: Rev. 1; PackageVersion: Rev. K, 04/2012; PackageReference: E16-5; PackageDescription: 16-Pin Quarter Small-Outline Package, Body 3.9 x 4.89 mm, Pitch 0.635 mm; Supplier 1: Mouser; Supplier Part Number 1: N/A; Fan Cntrl.: PWM; Mounting Technology: Surface Mount; Code_JEDEC: MO-137; ComponentLink1Description: Manufacturer URL; ComponentLink1URL: http://www.maximintegrated.com/; ComponentLink2Description: Datasheet; ComponentLink2URL: http://datasheets.maximintegrated.com/en/ds/MAX6653-MAX6664.pdf; ComponentLink3Description: Package Specification; ComponentLink3URL: http://pdfserv.maximintegrated.com/package_dwgs/21-0055.PDF
footprint MAXM-E16-5_N (SOP, 16-Leads, Body 4.89x3.9mm, Pitch 0.635mm, IPC Medium Density)
footprint MAXM-E16-5_L (SOP, 16-Leads, Body 4.89x3.9mm, Pitch 0.635mm, IPC High Density)
footprint MAXM-E16-5_M (SOP, 16-Leads, Body 4.89x3.9mm, Pitch 0.635mm, IPC Low Density)
part A pins: 1 PWM_OUT (oc) "Digital Output (Open Drain). Pulse-width modulated output to external power transistor.Requires a pullup resistor (10k ohm typ).", 2 TACH/AIN (in) "Digital/Analog Input. Fan tachometer input. May be reprogrammed as an analog input to measure speed of a 2-wire fan. See Figure 5.", 5 GND (power) "Ground", 6 VCC (power) "Power Supply. Bypass with a 0.01uF capacitor to GND.", 7 ~{THERM} (io) "Digital I/O (Open Drain). An active-low thermal-overload output to indicate that the overtemperature set point has been exceeded. Also acts as an input to provide external fan control. When this pin is pulled low by an (See Datasheet)", 8 ~{FAN}_~{FAULT} (oc) "Digital Output (Active Low, Open Drain). Signals a fan fault. Requires a pullup resistor (10k ohm typ).", 9 DXN "Combined Current Sink and A/D Negative Input. DXN is internally biased to a diode voltage above ground.", 10 DXP "Combined Current Source and A/D Positive Input for the Remote-Diode Channel. Do not leave DXP floating; connect DXP to DXN if no remote diode is used. Place a 2200pF capacitor between DXP and DXN for noise filtering.", 13 ADD (in) "Three-State Logic Input. Sets the 2 lower bits of the device SMBus address (Table 2). ADD is not an ordinary logic input pin; ADD should be connected to VCC, GND, or float.", 14 ~{INT} (oc) "Digital Output (Open Drain). Can be programmed as an interrupt output for temperature/fan speed interrupts. Requires a pullup resistor (10k ohm typ). For the MAX6653/MAX6663, it can be used also as an input. If pulled low, (See Datasheet)", 15 SMBDATA (io) "SMBus Serial-Data Input/Output (Open Drain). Requires a pullup resistor (10k ohm typ).", 16 SMBCLK (in) "SMBus Serial-Clock Input. Requires a pullup resistor (10k ohm typ)."
part B pins: 3 NC "No Connection. Not internally connected.", 4 NC "No Connection. Not internally connected.", 11 NC "Internal Connection. Leave floating or connect to GND.", 12 NC "Internal Connection. Leave floating or connect to GND."

## MAX6664AEE+
designator U?
Temperature Monitor and PWM Fan Controller, 11 Bits Tempearture Resolution, -40 to 125 degC, 16-Pin SOP (E16+5), Pb-Free; Generic Part Number: MAX6664; PartNumber: MAX6664AEE+; Fan Controller Functions: Dual Temperature Alarms, Fan Failure Detector ,Remote & Local Sensor; Interface: 2-Wire/I2C/SMBus; DatasheetVersion: Rev. 1; PackageVersion: Rev. K, 04/2012; PackageReference: E16+5; PackageDescription: 16-Pin Quarter Small-Outline Package, Body 3.9 x 4.89 mm, Pitch 0.635 mm; Supplier 1: Digi-Key; Supplier Part Number 1: MAX6664AEE+-ND; Supplier 2: Mouser; Supplier Part Number 2: 700-MAX6664AEE; Fan Cntrl.: PWM; Mounting Technology: Surface Mount; Code_JEDEC: MO-137; ComponentLink1Description: Manufacturer URL; ComponentLink1URL: http://www.maximintegrated.com/; ComponentLink2Description: Datasheet; ComponentLink2URL: http://datasheets.maximintegrated.com/en/ds/MAX6653-MAX6664.pdf; ComponentLink3Description: Package Specification; ComponentLink3URL: http://pdfserv.maximintegrated.com/package_dwgs/21-0055.PDF
footprint MAXM-E16+5_N (SOP, 16-Leads, Body 4.89x3.9mm, Pitch 0.635mm, IPC Medium Density)
footprint MAXM-E16+5_L (SOP, 16-Leads, Body 4.89x3.9mm, Pitch 0.635mm, IPC High Density)
footprint MAXM-E16+5_M (SOP, 16-Leads, Body 4.89x3.9mm, Pitch 0.635mm, IPC Low Density)
part A pins: 1 PWM_OUT (oc) "Digital Output (Open Drain). Pulse-width modulated output to external power transistor.Requires a pullup resistor (10k ohm typ).", 2 TACH/AIN (in) "Digital/Analog Input. Fan tachometer input. May be reprogrammed as an analog input to measure speed of a 2-wire fan. See Figure 5.", 5 GND (power) "Ground", 6 VCC (power) "Power Supply. Bypass with a 0.01uF capacitor to GND.", 7 ~{THERM} (io) "Digital I/O (Open Drain). An active-low thermal-overload output to indicate that the overtemperature set point has been exceeded. Also acts as an input to provide external fan control. When this pin is pulled low by an (See Datasheet)", 8 ~{FAN}_~{FAULT} (oc) "Digital Output (Active Low, Open Drain). Signals a fan fault. Requires a pullup resistor (10k ohm typ).", 9 DXN "Combined Current Sink and A/D Negative Input. DXN is internally biased to a diode voltage above ground.", 10 DXP "Combined Current Source and A/D Positive Input for the Remote-Diode Channel. Do not leave DXP floating; connect DXP to DXN if no remote diode is used. Place a 2200pF capacitor between DXP and DXN for noise filtering.", 13 ADD (in) "Three-State Logic Input. Sets the 2 lower bits of the device SMBus address (Table 2). ADD is not an ordinary logic input pin; ADD should be connected to VCC, GND, or float.", 14 ~{INT} (oc) "Digital Output (Open Drain). Can be programmed as an interrupt output for temperature/fan speed interrupts. Requires a pullup resistor (10k ohm typ). For the MAX6653/MAX6663, it can be used also as an input. If pulled low, (See Datasheet)", 15 SMBDATA (io) "SMBus Serial-Data Input/Output (Open Drain). Requires a pullup resistor (10k ohm typ).", 16 SMBCLK (in) "SMBus Serial-Clock Input. Requires a pullup resistor (10k ohm typ)."
part B pins: 3 NC "No Connection. Not internally connected.", 4 NC "No Connection. Not internally connected.", 11 NC "Internal Connection. Leave floating or connect to GND.", 12 NC "Internal Connection. Leave floating or connect to GND."

## MAX6664AEE+T
designator U?
Temperature Monitor and PWM Fan Controller, 11 Bits Tempearture Resolution, -40 to 125 degC, 16-Pin SOP (E16+5), Pb-Free, Tape and Reel; Generic Part Number: MAX6664; PartNumber: MAX6664AEE+T; Fan Controller Functions: Dual Temperature Alarms, Fan Failure Detector ,Remote & Local Sensor; Interface: 2-Wire/I2C/SMBus; DatasheetVersion: Rev. 1; PackageVersion: Rev. K, 04/2012; PackageReference: E16+5; PackageDescription: 16-Pin Quarter Small-Outline Package, Body 3.9 x 4.89 mm, Pitch 0.635 mm; Supplier 1: Digi-Key; Supplier Part Number 1: MAX6664AEE+T-ND; Supplier 2: Mouser; Supplier Part Number 2: 700-MAX6664AEET; Fan Cntrl.: PWM; Packing: Tape and Reel; Mounting Technology: Surface Mount; Code_JEDEC: MO-137; ComponentLink1Description: Manufacturer URL; ComponentLink1URL: http://www.maximintegrated.com/; ComponentLink2Description: Datasheet; ComponentLink2URL: http://datasheets.maximintegrated.com/en/ds/MAX6653-MAX6664.pdf; ComponentLink3Description: Package Specification; ComponentLink3URL: http://pdfserv.maximintegrated.com/package_dwgs/21-0055.PDF
footprint MAXM-E16+5_N (SOP, 16-Leads, Body 4.89x3.9mm, Pitch 0.635mm, IPC Medium Density)
footprint MAXM-E16+5_L (SOP, 16-Leads, Body 4.89x3.9mm, Pitch 0.635mm, IPC High Density)
footprint MAXM-E16+5_M (SOP, 16-Leads, Body 4.89x3.9mm, Pitch 0.635mm, IPC Low Density)
part A pins: 1 PWM_OUT (oc) "Digital Output (Open Drain). Pulse-width modulated output to external power transistor.Requires a pullup resistor (10k ohm typ).", 2 TACH/AIN (in) "Digital/Analog Input. Fan tachometer input. May be reprogrammed as an analog input to measure speed of a 2-wire fan. See Figure 5.", 5 GND (power) "Ground", 6 VCC (power) "Power Supply. Bypass with a 0.01uF capacitor to GND.", 7 ~{THERM} (io) "Digital I/O (Open Drain). An active-low thermal-overload output to indicate that the overtemperature set point has been exceeded. Also acts as an input to provide external fan control. When this pin is pulled low by an (See Datasheet)", 8 ~{FAN}_~{FAULT} (oc) "Digital Output (Active Low, Open Drain). Signals a fan fault. Requires a pullup resistor (10k ohm typ).", 9 DXN "Combined Current Sink and A/D Negative Input. DXN is internally biased to a diode voltage above ground.", 10 DXP "Combined Current Source and A/D Positive Input for the Remote-Diode Channel. Do not leave DXP floating; connect DXP to DXN if no remote diode is used. Place a 2200pF capacitor between DXP and DXN for noise filtering.", 13 ADD (in) "Three-State Logic Input. Sets the 2 lower bits of the device SMBus address (Table 2). ADD is not an ordinary logic input pin; ADD should be connected to VCC, GND, or float.", 14 ~{INT} (oc) "Digital Output (Open Drain). Can be programmed as an interrupt output for temperature/fan speed interrupts. Requires a pullup resistor (10k ohm typ). For the MAX6653/MAX6663, it can be used also as an input. If pulled low, (See Datasheet)", 15 SMBDATA (io) "SMBus Serial-Data Input/Output (Open Drain). Requires a pullup resistor (10k ohm typ).", 16 SMBCLK (in) "SMBus Serial-Clock Input. Requires a pullup resistor (10k ohm typ)."
part B pins: 3 NC "No Connection. Not internally connected.", 4 NC "No Connection. Not internally connected.", 11 NC "Internal Connection. Leave floating or connect to GND.", 12 NC "Internal Connection. Leave floating or connect to GND."

## MAX6664AEE-T
designator U?
Temperature Monitor and PWM Fan Controller, 11 Bits Tempearture Resolution, -40 to 125 degC, 16-Pin SOP (E16-5), Tape and Reel; Generic Part Number: MAX6664; PartNumber: MAX6664AEE-T; Fan Controller Functions: Dual Temperature Alarms, Fan Failure Detector ,Remote & Local Sensor; Interface: 2-Wire/I2C/SMBus; DatasheetVersion: Rev. 1; PackageVersion: Rev. K, 04/2012; PackageReference: E16-5; PackageDescription: 16-Pin Quarter Small-Outline Package, Body 3.9 x 4.89 mm, Pitch 0.635 mm; Supplier 1: Mouser; Supplier Part Number 1: N/A; Fan Cntrl.: PWM; Packing: Tape and Reel; Mounting Technology: Surface Mount; Code_JEDEC: MO-137; ComponentLink1Description: Manufacturer URL; ComponentLink1URL: http://www.maximintegrated.com/; ComponentLink2Description: Datasheet; ComponentLink2URL: http://datasheets.maximintegrated.com/en/ds/MAX6653-MAX6664.pdf; ComponentLink3Description: Package Specification; ComponentLink3URL: http://pdfserv.maximintegrated.com/package_dwgs/21-0055.PDF
footprint MAXM-E16-5_N (SOP, 16-Leads, Body 4.89x3.9mm, Pitch 0.635mm, IPC Medium Density)
footprint MAXM-E16-5_L (SOP, 16-Leads, Body 4.89x3.9mm, Pitch 0.635mm, IPC High Density)
footprint MAXM-E16-5_M (SOP, 16-Leads, Body 4.89x3.9mm, Pitch 0.635mm, IPC Low Density)
part A pins: 1 PWM_OUT (oc) "Digital Output (Open Drain). Pulse-width modulated output to external power transistor.Requires a pullup resistor (10k ohm typ).", 2 TACH/AIN (in) "Digital/Analog Input. Fan tachometer input. May be reprogrammed as an analog input to measure speed of a 2-wire fan. See Figure 5.", 5 GND (power) "Ground", 6 VCC (power) "Power Supply. Bypass with a 0.01uF capacitor to GND.", 7 ~{THERM} (io) "Digital I/O (Open Drain). An active-low thermal-overload output to indicate that the overtemperature set point has been exceeded. Also acts as an input to provide external fan control. When this pin is pulled low by an (See Datasheet)", 8 ~{FAN}_~{FAULT} (oc) "Digital Output (Active Low, Open Drain). Signals a fan fault. Requires a pullup resistor (10k ohm typ).", 9 DXN "Combined Current Sink and A/D Negative Input. DXN is internally biased to a diode voltage above ground.", 10 DXP "Combined Current Source and A/D Positive Input for the Remote-Diode Channel. Do not leave DXP floating; connect DXP to DXN if no remote diode is used. Place a 2200pF capacitor between DXP and DXN for noise filtering.", 13 ADD (in) "Three-State Logic Input. Sets the 2 lower bits of the device SMBus address (Table 2). ADD is not an ordinary logic input pin; ADD should be connected to VCC, GND, or float.", 14 ~{INT} (oc) "Digital Output (Open Drain). Can be programmed as an interrupt output for temperature/fan speed interrupts. Requires a pullup resistor (10k ohm typ). For the MAX6653/MAX6663, it can be used also as an input. If pulled low, (See Datasheet)", 15 SMBDATA (io) "SMBus Serial-Data Input/Output (Open Drain). Requires a pullup resistor (10k ohm typ).", 16 SMBCLK (in) "SMBus Serial-Clock Input. Requires a pullup resistor (10k ohm typ)."
part B pins: 3 NC "No Connection. Not internally connected.", 4 NC "No Connection. Not internally connected.", 11 NC "Internal Connection. Leave floating or connect to GND.", 12 NC "Internal Connection. Leave floating or connect to GND."

## MAX6665ASA40
designator U?
Fan Controller / Driver with Factory-Programmed Temperature Thresholds, -40 to 125 degC, 8-Pin SOIC (S8E-14); Generic Part Number: MAX6665; PartNumber: MAX6665ASA40; Fan Cntrl.: Linear; Fan Controller Functions: Temperature Switch/Temperature Comparator; Interface: Logic; DatasheetVersion: Rev. 0; PackageVersion: Rev. E, 01/2009; PackageReference: S8E-14; PackageDescription: 8-Pin Small-Outline IC, Narrow, Body 3.9 x 4.89 mm, Exposed Pad 2.945 x 2.26 mm, Pitch 1.27 mm; Supplier 1: Mouser; Supplier Part Number 1: N/A; Mounting Technology: Surface Mount; Code_JEDEC: MS-012; ComponentLink1Description: Manufacturer URL; ComponentLink1URL: http://www.maximintegrated.com/; ComponentLink2Description: Datasheet; ComponentLink2URL: http://datasheets.maximintegrated.com/en/ds/MAX6665.pdf; ComponentLink3Description: Package Specification; ComponentLink3URL: http://pdfserv.maximintegrated.com/package_dwgs/21-0111.PDF
footprint MAXM-S8E-14_N (SOIC, 8-Leads, Body 4.89x3.9mm, Pitch 1.27mm, Thermal Pad 2.945x2.26mm, IPC Medium Density)
footprint MAXM-S8E-14_L (SOIC, 8-Leads, Body 4.89x3.9mm, Pitch 1.27mm, Thermal Pad 2.945x2.26mm, IPC High Density)
footprint MAXM-S8E-14_M (SOIC, 8-Leads, Body 4.89x3.9mm, Pitch 1.27mm, Thermal Pad 2.945x2.26mm, IPC Low Density)
pins: 1 GND (power) "Ground", 2 ~{FORCEON} (in) "Force Fan On Input. Set F\O\R\C\E\O\N\ low to force the fan switch on. Set F\O\R\C\E\O\N\ high for normal operation.", 3 HYST (in) "Three-State Hysteresis Input. Connect HYST to VDD for 8degC, GND for 4degC, and leave HYST unconnected for 1degreesC hysteresis.", 4 FANON (out) "Fan-On Indicator Output. Push-pull output. FANON is high when the fan switch is on. FANON is low when the fan switch is off.", 5 ~{OT} (oc) "Overtemperature Output. Active-low when the temperature is 30degC above the fan threshold. Open-drain output, requires resistive pullup.", 6 ~{WARN} (oc) "Overtemperature Warning Output. Active-low when the temperature is 15degC above the fan threshold. Open-drain output, requires resistive pullup.", 7 VDD (power) "Supply Voltage. Bypass with a 1uF capacitor to GND as close to VDD pin as possible.", 8 ~{FANOUT} (out) "Fan-Switch (Driver) Output. Connect to the low side of a fan.", 9 GND (power) "Ground"

## MAX6665ASA40+
designator U?
Fan Controller / Driver with Factory-Programmed Temperature Thresholds, -40 to 125 degC, 8-Pin SOIC (S8E+14), Pb-Free; Generic Part Number: MAX6665; PartNumber: MAX6665ASA40+; Fan Cntrl.: Linear; Fan Controller Functions: Temperature Switch/Temperature Comparator; Interface: Logic; DatasheetVersion: Rev. 0; PackageVersion: Rev. E, 01/2009; PackageReference: S8E+14; PackageDescription: 8-Pin Small-Outline IC, Narrow, Body 3.9 x 4.89 mm, Exposed Pad 2.945 x 2.26 mm, Pitch 1.27 mm; Supplier 1: Digi-Key; Supplier Part Number 1: MAX6665ASA40+-ND; Supplier 2: Mouser; Supplier Part Number 2: 700-MAX6665ASA40; Mounting Technology: Surface Mount; Code_JEDEC: MS-012; ComponentLink1Description: Manufacturer URL; ComponentLink1URL: http://www.maximintegrated.com/; ComponentLink2Description: Datasheet; ComponentLink2URL: http://datasheets.maximintegrated.com/en/ds/MAX6665.pdf; ComponentLink3Description: Package Specification; ComponentLink3URL: http://pdfserv.maximintegrated.com/package_dwgs/21-0111.PDF
footprint MAXM-S8E+14_N (SOIC, 8-Leads, Body 4.89x3.9mm, Pitch 1.27mm, Thermal Pad 2.945x2.26mm, IPC Medium Density)
footprint MAXM-S8E+14_L (SOIC, 8-Leads, Body 4.89x3.9mm, Pitch 1.27mm, Thermal Pad 2.945x2.26mm, IPC High Density)
footprint MAXM-S8E+14_M (SOIC, 8-Leads, Body 4.89x3.9mm, Pitch 1.27mm, Thermal Pad 2.945x2.26mm, IPC Low Density)
pins: 1 GND (power) "Ground", 2 ~{FORCEON} (in) "Force Fan On Input. Set F\O\R\C\E\O\N\ low to force the fan switch on. Set F\O\R\C\E\O\N\ high for normal operation.", 3 HYST (in) "Three-State Hysteresis Input. Connect HYST to VDD for 8degC, GND for 4degC, and leave HYST unconnected for 1degreesC hysteresis.", 4 FANON (out) "Fan-On Indicator Output. Push-pull output. FANON is high when the fan switch is on. FANON is low when the fan switch is off.", 5 ~{OT} (oc) "Overtemperature Output. Active-low when the temperature is 30degC above the fan threshold. Open-drain output, requires resistive pullup.", 6 ~{WARN} (oc) "Overtemperature Warning Output. Active-low when the temperature is 15degC above the fan threshold. Open-drain output, requires resistive pullup.", 7 VDD (power) "Supply Voltage. Bypass with a 1uF capacitor to GND as close to VDD pin as possible.", 8 ~{FANOUT} (out) "Fan-Switch (Driver) Output. Connect to the low side of a fan.", 9 GND (power) "Ground"